# Altium footprint library Sim Card Connector.PcbLib: 5 footprints
Each footprint in its own frame and in the unit in brackets; x right, y up, seen from the top. Pads: shape width x height; smd on the part's side, far side on the other; paste and mask are expansions set on the pad; w line width, h text height; cw(c..) or ccw(c..) is an arc to the next point about the centre after c.
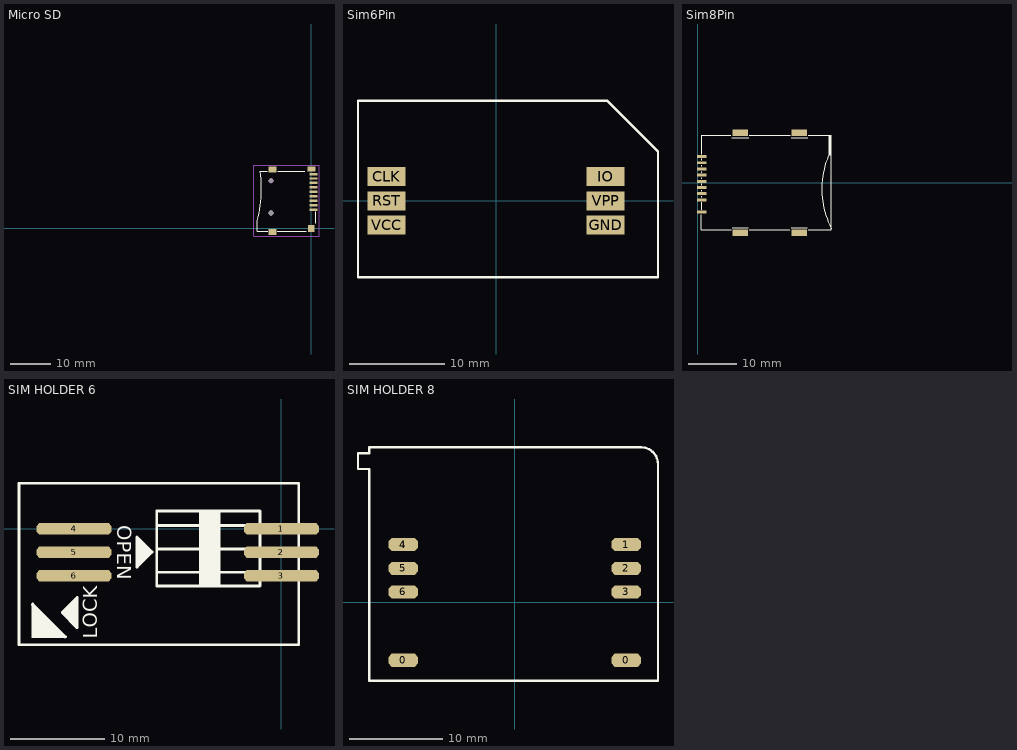
[diagram p0: the footprints below, top view; thin cyan lines are the x and y axes]

## Micro SD [mm]
pads (13):
  rect 2x0.6 smd: 1(0.541,4.65) 2(0.541,5.75) 3(0.541,6.85) 4(0.541,7.95) 5(0.541,9.05) 6(0.541,10.15) 7(0.541,11.25) 8(0.541,12.35) 9(0.541,13.45)
  rect 2x1.2 smd: 10(0,14.732)
  rect 1.7x1.7 smd: 11(0,0)
  rect 2x1.5 smd: 12(-9.61,14.532) 13(-9.6,-0.9)
via -9.936,11.786 diameter 1.2 hole 1.2
via -9.936,3.785 diameter 1.2 hole 1.2
Top Overlay:
  lines w0.254: -13.365,1.944 -13.365,-0.653 -10.807,-0.653 ; -13.365,1.944 ccw(c-42.344,9.748) -12.657,14.151 -10.88,14.151 -10.88,14.151 ; -8.394,-0.653 -1.282,-0.653 ; -8.34,14.151 -1.609,14.151 ; 1.058,1.324 1.058,4.118
Keep-Out Layer:
  lines w0.254: -9.959,3.3 cw(c-9.959,3.8) -9.959,4.3 cw(c-9.959,3.8) -9.959,3.3 ; -9.959,11.3 cw(c-9.959,11.8) -9.959,12.3 cw(c-9.959,11.8) -9.959,11.3
Mechanical 1:
  lines w0.254: -14.224,-1.905 1.905,-1.905 1.905,15.621 -14.224,15.621 -14.224,-1.905
Drill Drawing:
  circle w0.254: c-9.959,3.8 r0.5
  circle w0.254: c-9.959,11.8 r0.5
3D body "User Library-Micro SD.STEP": height 2, standoff -0.47, extent -13.843,-1.168 1.367,15.138

## Sim6Pin [mm]
pads (6):
  rect 4x2 smd: CLK(-11.5,2.55) GND(11.5,-2.55) IO(11.5,2.55) RST(-11.5,0) VCC(-11.5,-2.55) VPP(11.5,0)
Top Overlay:
  lines w0.254: -14.5,-8 -14.5,10.5 11.7,10.5 17,5.2 17,-8 -14.5,-8
3D body "User Library-SIM5060-6-0-26-01-A.STEP": height 3.6, standoff 0.3, extent -13.33,-7.4 16.31,9.8

## Sim8Pin [mm]
height 1.6
pads (13):
  rect 2x0.6 smd: 1(0.8,5.32) 2(0.8,2.78) 3(0.8,0.24) 4(0.8,-2.3) 5(0.8,4.05) 6(0.8,1.51) 7(0.8,-1.03) 8(0.8,-3.57) 9(0.8,-6.1)
  rect 3.2x1.4 smd: 10(8.65,-10.334) 10(8.65,10.2) 10(20.8,-10.309) 10(20.8,10.2)
Top Overlay:
  rectangle: 26.781,5.514 27.379,9.7
  lines w0.1: 0.7,-6.6 0.7,-9.734 6.8,-9.734 ; 0.75,-5.6 0.75,-4.05 ; 0.75,-3.05 0.75,-2.8 ; 0.75,-1.8 0.75,-1.55 ; 0.75,-0.55 0.75,-0.3 ; 0.75,0.75 0.75,1 ; 0.75,2 0.75,2.25 ; 0.75,3.3 0.75,3.55 ; 0.75,4.6 0.75,4.85 ; 0.779,5.821 0.779,9.691 6.75,9.691 ; 6.95,9.2 10.4,9.2 ; 6.998,-9.3 10.35,-9.3 ; 10.5,9.7 18.9,9.7 ; 10.55,-9.75 18.85,-9.75 ; 19.148,-9.3 22.45,-9.3 ; 19.15,9.2 22.5,9.2 ; 22.65,-9.734 27.379,-9.734 27.379,9.7 22.65,9.7 ; 26.781,5.514 ccw(c43.419,-1.334) 27.379,-9.484
3D body "User Library-115A-ADA0-R02.STEP": height 1.8, standoff 0, extent -0.35,-10.475 26.65,10.475

## SIM HOLDER 6 [mm]
pads (6):
  oct 8x1.2 smd: 1(0,0) 2(0,-2.5) 3(0,-5) 4(-22.1,0) 5(-22.1,-2.5) 6(-22.1,-5)
Top Overlay:
  rectangle: -25.862,-9.161 -25.562,-8.937
  rectangle: -25.862,-9.337 -25.338,-9.161
  rectangle: -25.862,-9.661 -25.162,-9.337
  rectangle: -26.062,-9.261 -25.662,-8.761
  rectangle: -26.162,-9.561 -25.462,-9.061
  rectangle: -26.638,-8.761 -26.162,-8.161
  rectangle: -24.838,-10.061 -24.738,-9.761
  rectangle: -25.162,-10.061 -24.838,-9.661
  rectangle: -24.562,-10.661 -24.162,-10.161
  rectangle: -25.062,-10.761 -24.462,-9.861
  rectangle: -23.262,-11.637 -23.138,-11.361
  rectangle: -23.762,-11.161 -23.562,-10.961
  rectangle: -24.162,-11.361 -23.662,-10.661
  rectangle: -24.062,-11.637 -23.262,-11.061
  rectangle: -26.638,-9.661 -25.862,-8.461
  rectangle: -26.638,-10.861 -24.962,-9.461
  rectangle: -26.638,-11.637 -23.962,-10.461
  rectangle: -8.771,-6.14 -6.47,1.912
  lines w0.254: -26.538,-8.085 -26.538,-8.061 ; -26.5,-8 -22.999,-11.499 ; -23.199,-11.399 -23.062,-11.537 ; -23.1,-11.5 -23.1,-11.5
  lines w0.3: -22.8,-9.035 -22.8,-8.985 ; -22.75,-8.835 -22.45,-8.535 ; -22.65,-8.885 -22.6,-8.935 -22.6,-9.235 ; -22.55,-8.735 -22.45,-8.835 -22.45,-9.435 ; -22.35,-8.385 -22.3,-8.435 -22.3,-9.485 ; -22.1,-9.885 -23,-8.985 -23,-8.835 -21.95,-7.785 -21.95,-10.085 ; -22.1,-9.735 -22.1,-8.285 ; -15.174,-1.336 -15.174,-3.637 -14.123,-2.587 -14.123,-2.437 -15.024,-1.536 ; -15.024,-3.137 -15.024,-1.686 ; -14.824,-1.936 -14.824,-2.987 -14.774,-3.037 ; -14.673,-2.887 -14.373,-2.587 ; -14.673,-1.986 -14.673,-2.587 -14.573,-2.687 ; -14.523,-2.186 -14.523,-2.487 -14.473,-2.537 ; -14.323,-2.437 -14.323,-2.387 ; -13.289,-4.637 -2.289,-4.637 ; -13.289,-2.137 -2.289,-2.137 ; -13.289,0.364 -2.289,0.364 ; -27.962,-12.361 -27.962,4.863 1.838,4.863 1.838,-12.361 -27.962,-12.361 ; -23.35,-8.935 -21.75,-7.335 -21.75,-10.535 -23.35,-8.935 ; -15.374,-4.087 -15.374,-0.886 -13.773,-2.487 -15.374,-4.087 ; -13.289,-6.088 -13.289,1.912 -2.289,1.912 -2.289,-6.088 -13.289,-6.088
  text "LOCK" at -19.6,-11.7 h1.52
  text "OPEN" at -17.5,0.4 h1.52
3D body "User Library-SIM holder 115B-AAA0-R.STEP": height 2.35, standoff -0.7, extent -27.912,-12.361 1.788,4.839

## SIM HOLDER 8 [mm]
pads (9):
  oct 3.2x1.4 smd: 0(-11.954,-6.2) 0(11.954,-6.2) 1(11.954,6.2) 2(11.954,3.66) 3(11.954,1.12) 4(-11.954,6.2) 4(-11.954,6.2) 5(-11.954,3.66) 6(-11.954,1.12)
Top Overlay:
  lines w0.254: -15.634,14.304 -16.802,14.304 -16.802,15.981 -15.583,15.981 -15.583,16.619 13.573,16.619 cw(c13.573,14.832) 15.36,14.832 15.36,-8.381 -15.583,-8.381 -15.583,14.304
3D body "912283001.stp": height 3.1, standoff 0, extent -16.84,-8.381 15.36,16.619